# Altium schematic symbol library IC_OpAmp.SchLib: 7 symbols
Pins are listed as number, name and electrical type; pins without a type are passive.

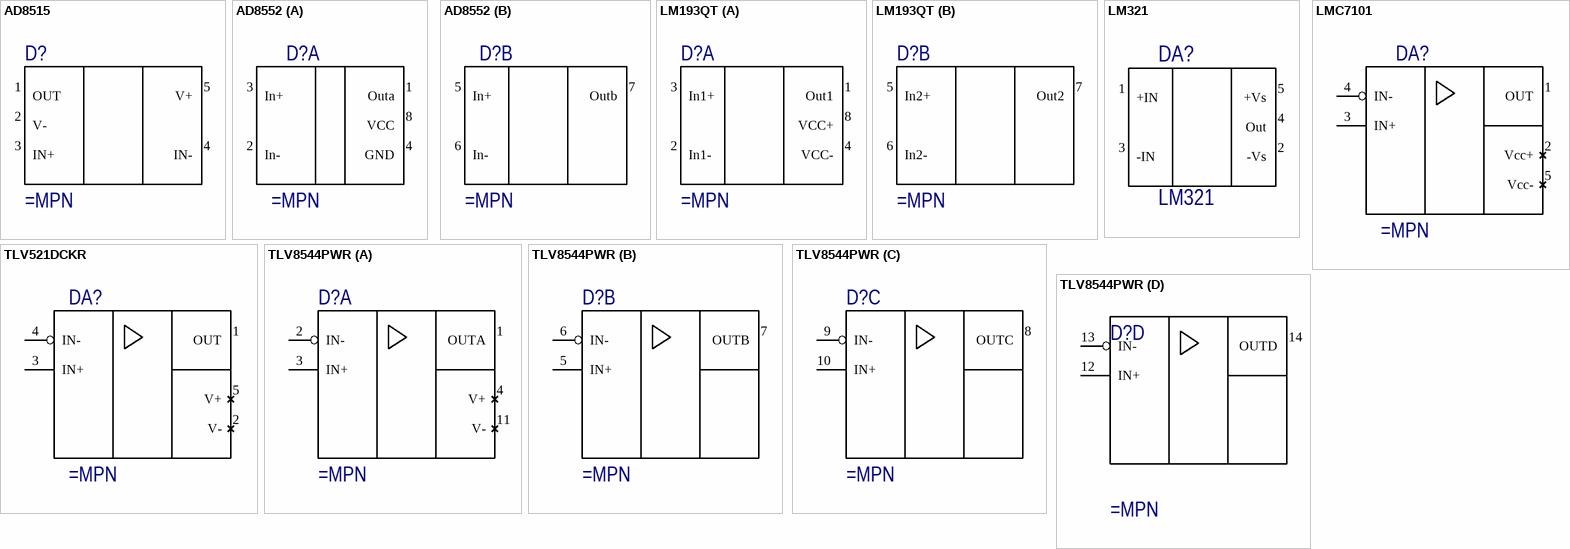
[diagram p0: symbols AD8515 to TLV8544PWR]

## AD8515
designator D?
pins: 1 OUT, 2 V-, 3 IN+, 4 IN-, 5 V+

## AD8552
designator D?
part A pins: 1 Outa, 2 In-, 3 In+, 4 GND, 8 VCC
part B pins: 5 In+, 6 In-, 7 Outb

## LM193QT
designator D?
part A pins: 1 Out1, 2 In1-, 3 In1+, 4 VCC-, 8 VCC+
part B pins: 5 In2+, 6 In2-, 7 Out2

## LM321
designator DA?
Low Power Single Operational Amplifier (SOT-23)
pins: 1 +IN "Noninverting input", 2 -Vs "Negative (lowest) power supply", 3 -IN "Inverting input", 4 Out "Output", 5 +Vs "Positive (highest) power supply"

## LMC7101
designator DA?
pins: 1 OUT, 2 Vcc+, 3 IN+, 4 IN-, 5 Vcc-

## TLV521DCKR
designator DA?
pins: 1 OUT, 2 V-, 3 IN+, 4 IN-, 5 V+

## TLV8544PWR
designator D?
part A pins: 1 OUTA, 2 IN-, 3 IN+, 4 V+, 11 V-
part B pins: 5 IN+, 6 IN-, 7 OUTB
part C pins: 8 OUTС, 9 IN-, 10 IN+
part D pins: 12 IN+, 13 IN-, 14 OUTD